# EAGLE library part S29GL256 (library ExtraParts)
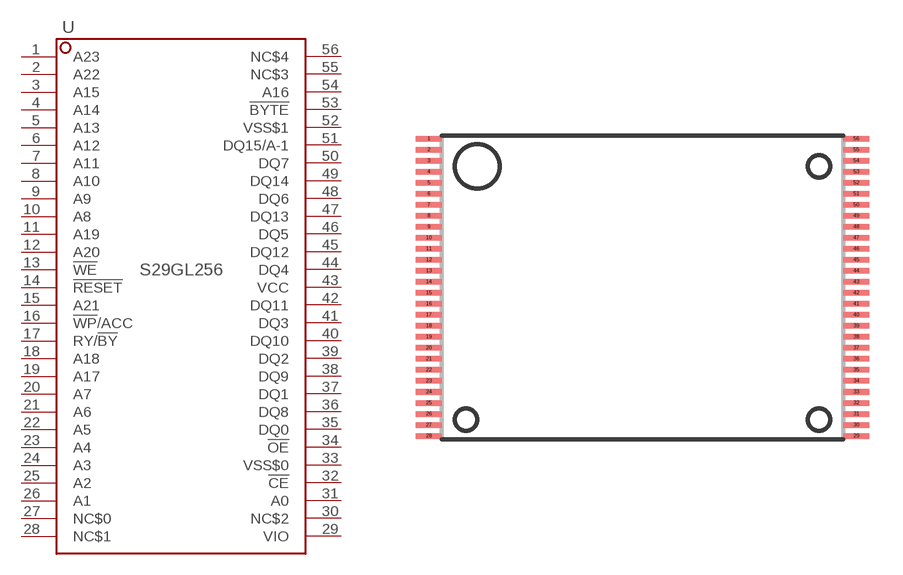
[diagram p2: symbol with the pads of TSOP56; footprint TSOP56]

Designator prefix -

## S29GL256  [TSOP56]
1  A23
2  A22
3  A15
4  A14
5  A13
6  A12
7  A11
8  A10
9  A9
10  A8
11  A19
12  A20
13  !WE
14  !RESET
15  A21
16  !WP!/ACC
17  RY/!BY
18  A18
19  A17
20  A7
21  A6
22  A5
23  A4
24  A3
25  A2
26  A1
27  NC$0  nc
28  NC$1  nc
29  VIO  pwr
30  NC$2  nc
31  A0
32  !CE
33  VSS$0  pwr
34  !OE
35  DQ0
36  DQ8
37  DQ1
38  DQ9
39  DQ2
40  DQ10
41  DQ3
42  DQ11
43  VCC  pwr
44  DQ4
45  DQ12
46  DQ5
47  DQ13
48  DQ6
49  DQ14
50  DQ7
51  DQ15/A-1
52  VSS$1  pwr
53  !BYTE
54  A16
55  NC$3  nc
56  NC$4  nc

## Footprint TSOP56 (pad centres in mm)
Thin Small Outline Package
smd 1.2 x 0.25: 1 -9.7,6.75; 2 -9.7,6.25; 3 -9.7,5.75; 4 -9.7,5.25; 5 -9.7,4.75; 6 -9.7,4.25; 7 -9.7,3.75; 8 -9.7,3.25; 9 -9.7,2.75; 10 -9.7,2.25; 11 -9.7,1.75; 12 -9.7,1.25; 13 -9.7,0.75; 14 -9.7,0.25; 15 -9.7,-0.25; 16 -9.7,-0.75; 17 -9.7,-1.25; 18 -9.7,-1.75; 19 -9.7,-2.25; 20 -9.7,-2.75; 21 -9.7,-3.25; 22 -9.7,-3.75; 23 -9.7,-4.25; 24 -9.7,-4.75; 25 -9.7,-5.25; 26 -9.7,-5.75; 27 -9.7,-6.25; 28 -9.7,-6.75; 29 9.7,-6.75; 30 9.7,-6.25; 31 9.7,-5.75; 32 9.7,-5.25; 33 9.7,-4.75; 34 9.7,-4.25; 35 9.7,-3.75; 36 9.7,-3.25; 37 9.7,-2.75; 38 9.7,-2.25; 39 9.7,-1.75; 40 9.7,-1.25; 41 9.7,-0.75; 42 9.7,-0.25; 43 9.7,0.25; 44 9.7,0.75; 45 9.7,1.25; 46 9.7,1.75; 47 9.7,2.25; 48 9.7,2.75; 49 9.7,3.25; 50 9.7,3.75; 51 9.7,4.25; 52 9.7,4.75; 53 9.7,5.25; 54 9.7,5.75; 55 9.7,6.25; 56 9.7,6.75